# Altium footprint library PcbLib1.PcbLib: 12 footprints
Each footprint in its own frame and in the unit in brackets; x right, y up, seen from the top. Pads: shape width x height; smd on the part's side, far side on the other; paste and mask are expansions set on the pad; w line width, h text height; cw(c..) or ccw(c..) is an arc to the next point about the centre after c.
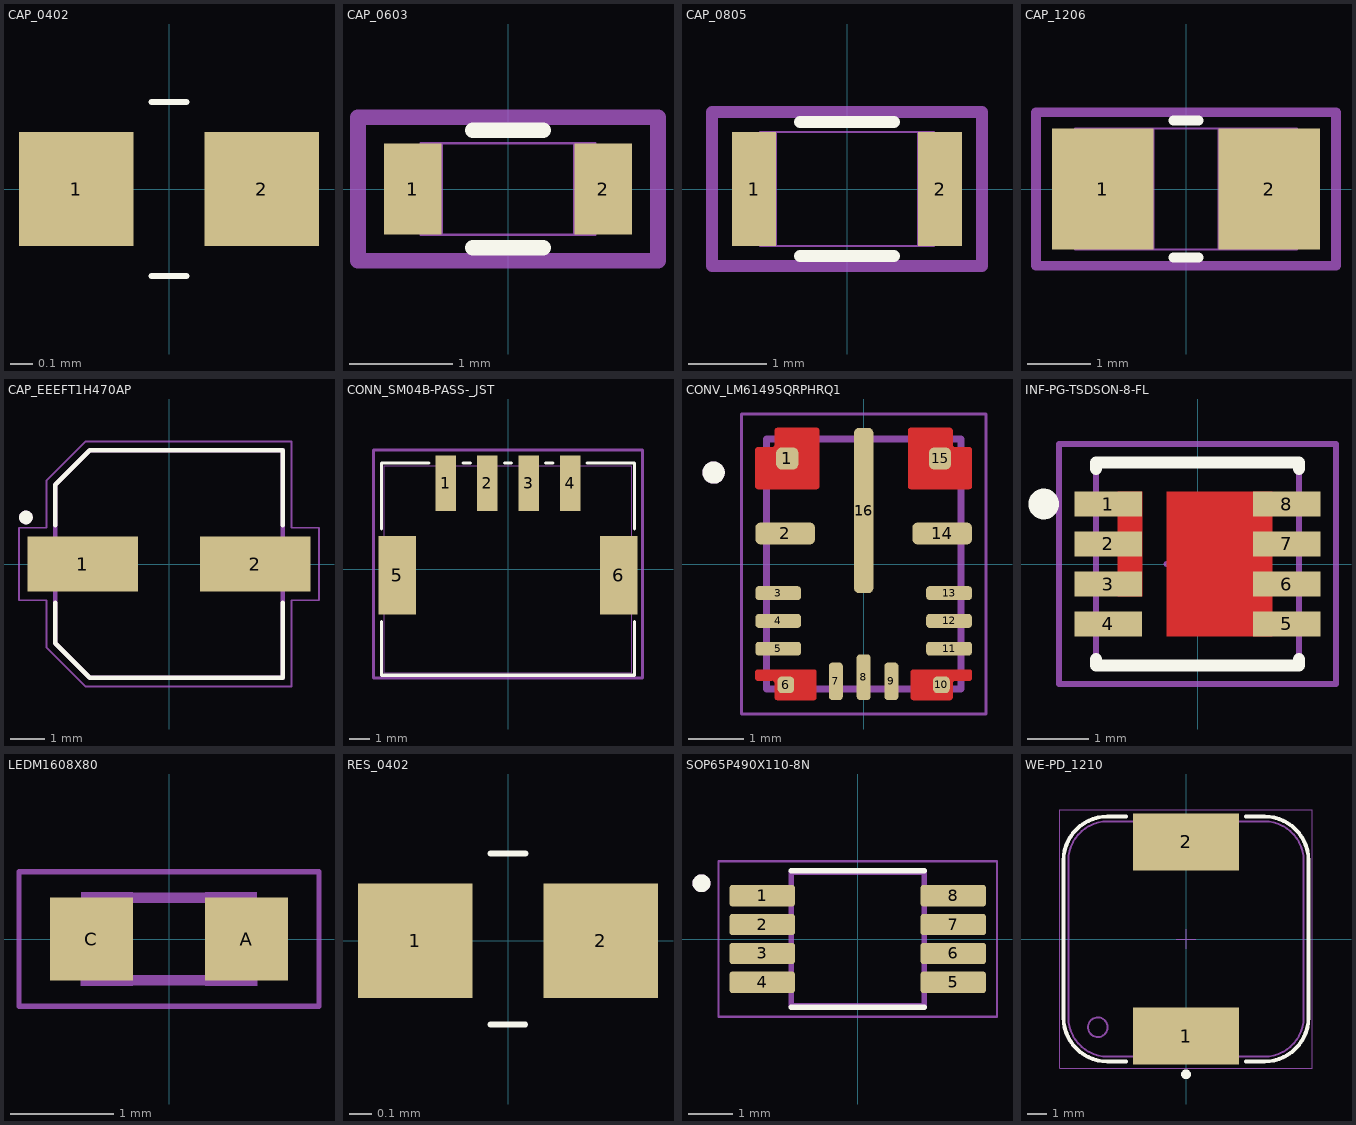
[diagram p0: the footprints below, top view; thin cyan lines are the x and y axes]

## CAP_0402 [mm] "Capacitor"
height 0.5
pads (2):
  rect 0.5x0.5 smd mask+0.051: 1(-0.406,0) 2(0.406,0)
Top Overlay:
  lines w0.025: -0.076,-0.381 0.076,-0.381 ; -0.076,0.381 0.076,0.381
3D body "c0402c101j5gactu.stp": height 0.55, standoff 0, extent -0.525,-0.279 0.525,0.271

## CAP_0603 [mil]
pads (2):
  rect 22x35 smd paste+0 mask+0: 1(-36.5,0) 2(36.5,0)
Top Overlay:
  lines w6: -13.39,-22.5 13.39,-22.5 ; -13.39,22.5 13.39,22.5
Mechanical 13:
  circle w0: c-31.5,0 r3
  lines w1: -33.5,-17.5 -33.5,17.5 ; -33.5,-17.5 -25.5,-17.5 -25.5,17.5 -33.5,17.5 ; -33.5,-17.5 33.5,-17.5 ; -33.5,-17.5 -33.5,17.5 ; -33.5,17.5 33.5,17.5 ; 33.5,-17.5 25.5,-17.5 25.5,17.5 33.5,17.5 ; 33.5,-17.5 33.5,17.5 ; 33.5,-17.5 33.5,17.5
Mechanical 15:
  lines w6: -57.5,-27.5 -57.5,27.5 57.5,27.5 57.5,-27.5 -57.5,-27.5
3D body "CAP_1608_TDK.step": height 35, standoff 0, extent -33.5,-17.48 33.5,17.48

## CAP_0805 [mil]
pads (2):
  rect 22x57 smd paste+0 mask+0: 1(-46.5,0) 2(46.5,0)
Top Overlay:
  lines w6: -23.39,-33.5 23.39,-33.5 ; -23.39,33.5 23.39,33.5
Mechanical 13:
  circle w0: c-41.5,0 r3
  lines w1: -43.5,-28.5 -43.5,28.5 ; -43.5,-28.5 43.5,-28.5 ; -43.5,-28.5 -35.5,-28.5 -35.5,28.5 -43.5,28.5 ; -43.5,-28.5 -43.5,28.5 ; -43.5,28.5 43.5,28.5 ; 43.5,-28.5 43.5,28.5 ; 43.5,-28.5 43.5,28.5 ; 43.5,-28.5 35.5,-28.5 35.5,28.5 43.5,28.5
Mechanical 15:
  lines w6: -67.5,-38.5 67.5,-38.5 67.5,38.5 -67.5,38.5 -67.5,-38.5
3D body "CAP_2012_TDK.step": height 49.02, standoff 0, extent -43.5,-28.5 43.5,28.5

## CAP_1206 [mil]
pads (2):
  rect 63x75 smd paste+0 mask+0: 1(-51.5,0) 2(51.5,0)
Top Overlay:
  lines w6: -7.89,-42.5 7.89,-42.5 ; -7.89,42.5 7.89,42.5
Mechanical 13:
  circle w0: c-46.5,0 r3
  lines w1: -69,-37.5 -69,37.5 ; -69,-37.5 -20,-37.5 -20,37.5 -69,37.5 ; -69,-37.5 69,-37.5 ; -69,-37.5 -69,37.5 ; -69,37.5 69,37.5 ; 69,-37.5 20,-37.5 20,37.5 69,37.5 ; 69,-37.5 69,37.5 ; 69,-37.5 69,37.5
Mechanical 15:
  lines w6: -93,-47.5 -93,47.5 93,47.5 93,-47.5 -93,-47.5
3D body "CAP_3216_TDK.step": height 75, standoff 0, extent -69.02,-37.48 69.02,37.48

## CAP_EEEFT1H470AP [mm]
height 5.8
pads (2):
  rect 3.2x1.6 smd: 1(-2.5,0) 2(2.5,0)
Top Overlay:
  circle w0.2: c-4.15,1.35 r0.1
  lines w0.127: -3.3,-1.12 -3.3,-2.3 -2.3,-3.3 3.3,-3.3 3.3,-1.12 ; -3.3,1.12 -3.3,2.3 -2.3,3.3 3.3,3.3 3.3,1.12
Mechanical 13:
  circle w0.2: c-4.15,1.35 r0.1
  lines w0.127: -3.3,-2.3 -3.3,2.3 -2.3,3.3 3.3,3.3 3.3,-3.3 -2.3,-3.3 -3.3,-2.3
Mechanical 15:
  lines w0.05: -4.35,-1.05 -3.55,-1.05 -3.55,-2.425 -2.425,-3.55 3.55,-3.55 3.55,-1.05 4.35,-1.05 4.35,1.05 3.55,1.05 3.55,3.55 -2.425,3.55 -3.55,2.425 -3.55,1.05 -4.35,1.05 -4.35,-1.05
3D body "step_temp.STEP": height 5.8, standoff 0, extent -3.65,-3.3 3.65,3.3

## CONN_SM04B-PASS-_JST [mil]
pads (6):
  rect 39x106 smd paste+0 mask+0: 1(-118.11,163.54) 2(-39.37,163.54) 3(39.37,163.54) 4(118.11,163.54)
  rect 71x150 smd paste-75 mask-75: 5(-210.63,-11.66) 6(210.63,-11.66)
Top Overlay:
  lines w6: -241,-99.76 -241,-202 241,-202 241,-99.76 ; -241,76.44 -241,202 -150.71,202 ; -85.51,202 -71.97,202 ; -6.77,202 6.77,202 ; 71.97,202 85.51,202 ; 150.71,202 241,202 241,76.44
Mechanical 13:
  lines w1: -236,-197 -236,197 236,197 236,-197 -236,-197
Mechanical 15:
  lines w6: -256.13,-207 256.13,-207 256.13,226.54 -256.13,226.54 -256.13,-207
3D body "SM04B-PASS-TBT.STEP": height 224.41, standoff 0, extent -236.22,-196.85 236.22,196.85

## CONV_LM61495QRPHRQ1 [mm]
height 1
pads (16):
  rrect50% 0.4x0.4 smd paste-1 mask+0: 1(-1.375,1.9) 15(1.375,1.9)
  rrect50% 1.075x0.4 smd mask+0.051: 2(-1.413,0.55) 14(1.413,0.55)
  rrect50% 0.825x0.25 smd mask+0.051: 3(-1.538,-0.525) 4(-1.538,-1.025) 11(1.538,-1.525) 12(1.538,-1.025)
  rrect51% 0.825x0.25 smd mask+0.051: 5(-1.538,-1.525) 13(1.538,-0.525)
  rrect50% 0.3x0.3 smd paste-1 mask+0: 6(-1.4,-2.175) 10(1.4,-2.175)
  rrect50% 0.25x0.675 smd mask+0.051: 7(-0.5,-2.113) 9(0.5,-2.113)
  rrect50% 0.25x0.825 smd mask+0.051: 8(0,-2.038)
  rrect50% 0.35x2.975 smd mask+0.051: 16(0,0.963)
Top Layer:
  region: 174 vertices and 0 holes, not listed, extent 0.85,-2.45 1.95,-1.9
  region: 174 vertices and 0 holes, not listed, extent 0.8,1.35 1.95,2.45
  region: 174 vertices and 0 holes, not listed, extent -1.95,-2.45 -0.85,-1.9
  region: 174 vertices and 0 holes, not listed, extent -1.95,1.35 -0.8,2.45
Top Overlay:
  circle w0.2: c-2.701,1.646 r0.1
Top Paste:
  drawing of 4 lines, arcs and shapes, not listed
Top Solder:
  drawing of 4 lines, arcs and shapes, not listed
Mechanical 13:
  circle w0.2: c-2.701,1.646 r0.1
  lines w0.127: -1.75,-2.25 1.75,-2.25 1.75,2.25 -1.75,2.25 -1.75,-2.25
Mechanical 15:
  lines w0.05: -2.201,-2.701 2.201,-2.701 2.201,2.701 -2.201,2.701 -2.201,-2.701
3D body "step_temp.STEP": height 1, standoff 0, extent -1.75,-2.25 1.75,2.25

## INF-PG-TSDSON-8-FL [mm] "SON,0.65mm pitch;8 pin,3.3mm W X 3.3mm L X 1.10mm H body"
height 1.1
pads (8):
  rect 1.1x0.4 smd paste+0 mask+0: 1(-1.45,0.975) 2(-1.45,0.325) 3(-1.45,-0.325) 4(-1.45,-0.975) 5(1.45,-0.975) 6(1.45,-0.325) 7(1.45,0.325) 8(1.45,0.975)
Top Layer:
  region: 1.212,1.175 -0.497,1.175 -0.497,-1.175 1.212,-1.175
  region: -0.9,-0.525 -1.3,-0.525 -1.3,1.175 -0.9,1.175
Top Overlay:
  circle w0.25: c-2.5,0.975 r0.125
  lines w0.2: -1.65,-1.55 -1.65,-1.65 1.65,-1.65 1.65,-1.55 ; -1.65,1.55 -1.65,1.65 1.65,1.65 1.65,1.55
Mechanical 13:
  lines w0.1: -1.65,-1.65 -1.65,1.65 1.65,1.65 1.65,-1.65 -1.65,-1.65
Mechanical 15:
  lines w0.1: -0.5,0 0.5,0 ; 0,-0.5 0,0.5 ; -2.25,-1.95 2.25,-1.95 2.25,1.95 -2.25,1.95 -2.25,-1.95
3D body "PG-TSDSON-8-2_C66065-A6779-C015-06-0004.stp": height 1.01, standoff 0, extent -1.65,-1.65 1.65,1.65

## LEDM1608X80 [mm]
pads (2):
  rect 0.8x0.8 smd: A(0.75,0) C(-0.75,0)
Mechanical 13:
  circle w0.051: c-0.625,-0.35 r0.075
  region: 0.65,0.175 0.55,0.175 0.55,0.275 0.65,0.275
  region: 0.65,-0.275 0.55,-0.275 0.55,-0.175 0.65,-0.175
  region: 0.575,-0.275 0.35,-0.275 0.35,0.275 0.575,0.275
  region: 0.85,0.25 0.35,0.25 0.35,0.45 0.85,0.45
  region: 0.851,-0.45 0.35,-0.45 0.35,-0.251 0.851,-0.251
  region: -0.351,-0.451 -0.576,-0.451 -0.576,0.451 -0.351,0.451
  region: -0.551,0.25 -0.85,0.25 -0.85,0.451 -0.551,0.451
  region: -0.35,-0.45 -0.725,-0.45 -0.725,-0.4 -0.35,-0.4
  region: -0.55,-0.276 -0.601,-0.276 -0.601,-0.225 -0.55,-0.225
  region: -0.7,-0.451 -0.851,-0.451 -0.851,-0.25 -0.7,-0.25
  lines w0.051: 0.825,-0.275 cw(c0.825,0) 0.825,0.275
  lines w0.102: -0.8,-0.3 ccw(c-0.826,0) -0.8,0.3 ; -0.375,-0.4 0.35,-0.4 ; -0.35,0.4 0.35,0.4
Mechanical 15:
  lines w0.05: -1.45,-0.65 -1.45,0.65 1.45,0.65 1.45,-0.65 -1.45,-0.65
3D body "LTST-C190GKT--3DModel-STEP-510211.STEP": height 0.8, standoff 0, extent -0.8,-0.4 0.8,0.4

## RES_0402 [mm]
pads (2):
  rect 0.5x0.5 smd mask+0.051: 1(-0.406,0) 2(0.406,0)
Top Overlay:
  lines w0.025: -0.077,-0.366 0.075,-0.366 ; -0.076,0.381 0.076,0.381
3D body "res0402-1.step": height 0.3, standoff 0, extent -0.5,-0.25 0.5,0.25

## SOP65P490X110-8N [mm]
height 1.1
pads (8):
  rrect25% 1.47x0.48 smd mask+0: 1(-2.15,0.975) 2(-2.15,0.325) 3(-2.15,-0.325) 4(-2.15,-0.975) 5(2.15,-0.975) 6(2.15,-0.325) 7(2.15,0.325) 8(2.15,0.975)
Top Overlay:
  circle w0.2: c-3.52,1.255 r0.1
  lines w0.127: -1.5,-1.535 1.5,-1.535 ; -1.5,1.535 1.5,1.535
Mechanical 13:
  circle w0.2: c-3.52,1.255 r0.1
  lines w0.127: -1.5,-1.5 -1.5,1.5 1.5,1.5 1.5,-1.5 -1.5,-1.5
Mechanical 15:
  lines w0.05: -3.135,-1.75 -3.135,1.75 3.135,1.75 3.135,-1.75 -3.135,-1.75
3D body "step_temp.STEP": height 1.1, standoff 0, extent -2.45,-1.5 2.45,1.5

## WE-PD_1210 [mm] "SMT Shielded Power Inductor, 2-leads, body 12x12mm"
height 10
pads (2):
  rect 5.4x2.9 smd: 1(0,-4.95) 2(0,4.95)
Top Overlay:
  circle w0.25: c0,-6.9 r0.125
  lines w0.2: -3.05,-6.25 -4,-6.25 cw(c-4,-4) -6.25,-4 -6.25,4 cw(c-4,4) -4,6.25 -3.05,6.25 ; 3.05,-6.25 4,-6.25 ccw(c4,-4) 6.25,-4 6.25,4 ccw(c4,4) 4,6.25 3.05,6.25
Top 3D Body:
  circle w0.1: c-4.5,-4.5 r0.5
  lines w0.1: -6,-4 ccw(c-4,-4) -4,-6 4,-6 ccw(c4,-4) 6,-4 6,4 ccw(c4,4) 4,6 -4,6 ccw(c-4,4) -6,4 -6,-4
Top Courtyard:
  lines w0.05: -0.5,0 0.5,0 ; 0,-0.5 0,0.5 ; -6.45,-6.6 -6.45,6.6 6.45,6.6 6.45,-6.6 -6.45,-6.6
Top Component Outline:
  circle w0.1: c-4.5,-4.5 r0.5
  lines w0.1: -6,-4 ccw(c-4,-4) -4,-6 4,-6 ccw(c4,-4) 6,-4 6,4 ccw(c4,4) 4,6 -4,6 ccw(c-4,4) -6,4 -6,-4
3D body "WE-PD_1210_m-base_7447709xx.stp": height 9.46, standoff 0, extent -6,-6 6,6